# Altium schematic symbol library Resistors.SchLib: 4 symbols
Pins are listed as number, name and electrical type; pins without a type are passive.

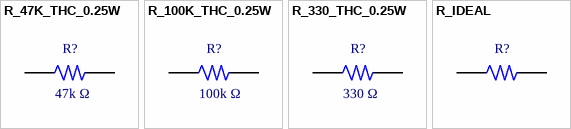
[diagram p0: symbols R_47K_THC_0.25W to R_IDEAL]

## R_47K_THC_0.25W
designator R?  value 47k Ω
Temperature Min: °C; Temperature Max: °C
footprint RESISTOR-8mm
pins: 1, 2

## R_100K_THC_0.25W
designator R?  value 100k Ω
Temperature Min: °C; Temperature Max: °C
footprint RESISTOR-8mm
pins: 1, 2

## R_330_THC_0.25W
designator R?  value 330 Ω
Temperature Min: °C; Temperature Max: °C
footprint RESISTOR-8mm
pins: 1, 2

## R_IDEAL
designator R?
Temperature Min: °C; Temperature Max: °C
footprint RESISTOR-8mm
pins: 1, 2